# EAGLE library part BM06B-GHS-TBT(LF)(SN)(N) (library My_Library_2)
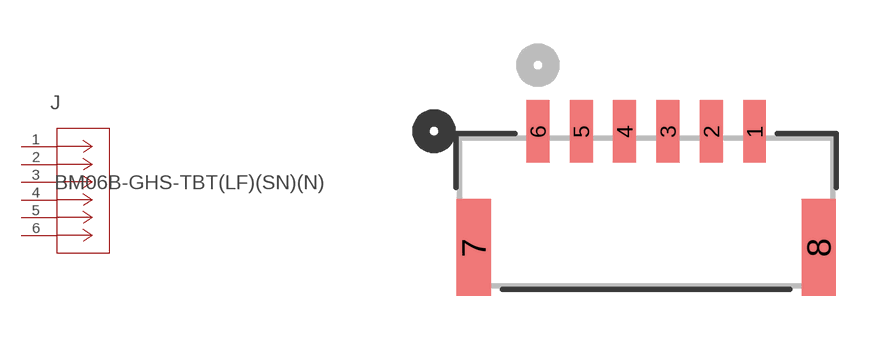
[diagram p16: symbol with the pads of CONN_BM06B-GHS-TBT_JST; footprint CONN_BM06B-GHS-TBT_JST]

Designator prefix J

## BM06B-GHS-TBT(LF)(SN)(N) (COPYRIGHT: Copyright (C) 2025 Ultra Librarian. All rights reserved.; MANUFACTURER_PART_NUMBER: BM06B-GHS-TBT(LF)(SN)(N); MFR_NAME: JST)  [CONN_BM06B-GHS-TBT_JST]
1  1  pas
2  2  pas
3  3  pas
4  4  pas
5  5  pas
6  6  pas

## Footprint CONN_BM06B-GHS-TBT_JST (pad centres in mm)
smd 0.66 x 1.803: 1 3.125,2.326; 2 1.875,2.326; 3 0.625,2.326; 4 -0.625,2.326; 5 -1.875,2.326; 6 -3.125,2.326
smd 0.991 x 2.794: 7 -4.975,-1.024; 8 4.975,-1.024